# EAGLE library part MCP6024 (library My Library)
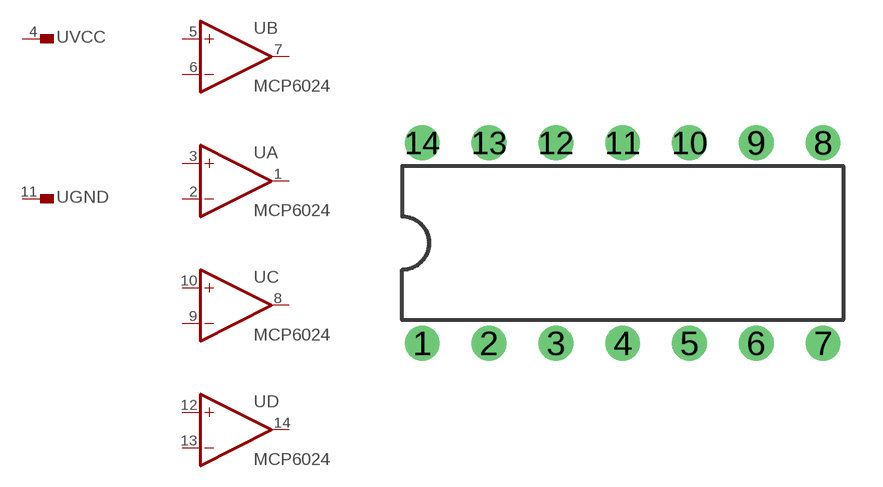
[diagram p2: symbol with the pads of 14DIP; footprint 14DIP]

Designator prefix -; gates A=OPAMP B=OPAMP C=OPAMP D=OPAMP VCC=PIN GND=PIN

## MCP6024  [14DIP]
1  A:OUT  out
2  A:-IN  in
3  A:+IN  in
4  VCC:1  pas
5  B:+IN  in
6  B:-IN  in
7  B:OUT  out
8  C:OUT  out
9  C:-IN  in
10  C:+IN  in
11  GND:1  pas
12  D:+IN  in
13  D:-IN  in
14  D:OUT  out

## Footprint 14DIP (pad centres in mm)
drill 0.813 round: 1 -6.35,-3.81; 2 -3.81,-3.81; 3 -1.27,-3.81; 4 1.27,-3.81; 5 3.81,-3.81; 6 6.35,-3.81; 7 8.89,-3.81; 8 8.89,3.81; 9 6.35,3.81; 10 3.81,3.81; 11 1.27,3.81; 12 -1.27,3.81; 13 -3.81,3.81; 14 -6.35,3.81